# Altium footprint library PCB - LEADLESS - QFN - QORVO RFSW6024.PcbLib: 1 footprints
Each footprint in its own frame and in the unit in brackets; x right, y up, seen from the top. Pads: shape width x height; smd on the part's side, far side on the other; paste and mask are expansions set on the pad; w line width, h text height; cw(c..) or ccw(c..) is an arc to the next point about the centre after c.
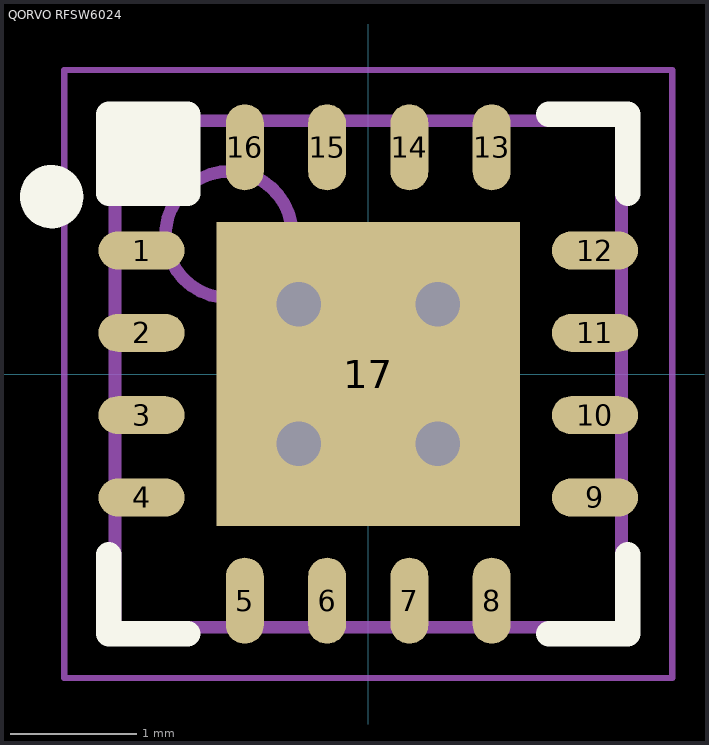
[diagram p0: the footprint, top view; thin cyan lines are the x and y axes]

## QORVO RFSW6024 [mm] "QFN, 16-Leads, Body 4.00x4.00mm, Pitch 0.65mm, Thermal Pad 2.40x2.40mm"
height 0.85
pads (17):
  oval 0.68x0.3 smd: 1(-1.79,0.975) 2(-1.79,0.325) 3(-1.79,-0.325) 4(-1.79,-0.975) 9(1.79,-0.975) 10(1.79,-0.325) 11(1.79,0.325) 12(1.79,0.975)
  oval 0.3x0.68 smd: 5(-0.975,-1.79) 6(-0.325,-1.79) 7(0.325,-1.79) 8(0.975,-1.79) 13(0.975,1.79) 14(0.325,1.79) 15(-0.325,1.79) 16(-0.975,1.79)
  rect 2.4x2.4 smd: 17(0,0)
via -0.55,0.55 diameter 0.65 hole 0.35
via 0.55,0.55 diameter 0.65 hole 0.35
via -0.55,-0.55 diameter 0.65 hole 0.35
via 0.55,-0.55 diameter 0.65 hole 0.35
Top Overlay:
  circle w0.25: c-2.5,1.4 r0.125
  rectangle: -2.05,1.425 -1.425,2.05
  lines w0.2: -2.05,-1.425 -2.05,-2.05 -1.425,-2.05 ; 1.425,-2.05 2.05,-2.05 2.05,-1.425 ; 1.425,2.05 2.05,2.05 2.05,1.425 ; -2.05,1.425 -1.425,1.425 -1.425,2.05 -2.05,2.05 -2.05,1.425
Mechanical 13:
  circle w0.1: c-1.1,1.1 r0.5
  lines w0.1: -2,-2 -2,2 2,2 2,-2 -2,-2
Mechanical 15:
  lines w0.05: -2.4,-2.4 -2.4,2.4 2.4,2.4 2.4,-2.4 -2.4,-2.4
  lines w0.1: -0.5,0 0.5,0 ; 0,-0.5 0,0.5
3D body "QORVO RFSW6024.step": height 0.85, standoff 0, extent -2.01,-2.01 2.01,2.01